# Altium schematic symbol library ERJ-6RBD6801V.SchLib: 1 symbol
Pins are listed as number, name and electrical type; pins without a type are passive.

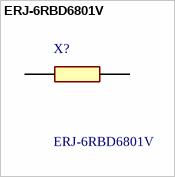
[diagram p0: symbol ERJ-6RBD6801V]

## ERJ-6RBD6801V
designator X?
Panasonic Precision Thick Film Surface Mount Resistor 0805 Case 6.8k +/-0.5% 0.1W +/-50ppm/C; Geometry.Height: 0.7mm; Mouser Part Number: 667-ERJ-6RBD6801V; Mouser Price/Stock: https://www.mouser.co.uk/ProductDetail/Panasonic/ERJ-6RBD6801V?qs=KTDjhDDUMAnVK9U3Ijzkxw%3D%3D; Manufacturer_Name: Panasonic; Manufacturer_Part_Number: ERJ-6RBD6801V; Datasheet Link: https://datasheet.datasheetarchive.com/originals/distributors/DKDS41/DSANUWW0038499.pdf
footprint RESC2012X70N
pins: 1, 2